# Altium footprint library Mechanical.PcbLib: 35 footprints (part 3 of 3)
Each footprint in its own frame and in the unit in brackets; x right, y up, seen from the top. Pads: shape width x height; smd on the part's side, far side on the other; paste and mask are expansions set on the pad; w line width, h text height; cw(c..) or ccw(c..) is an arc to the next point about the centre after c.
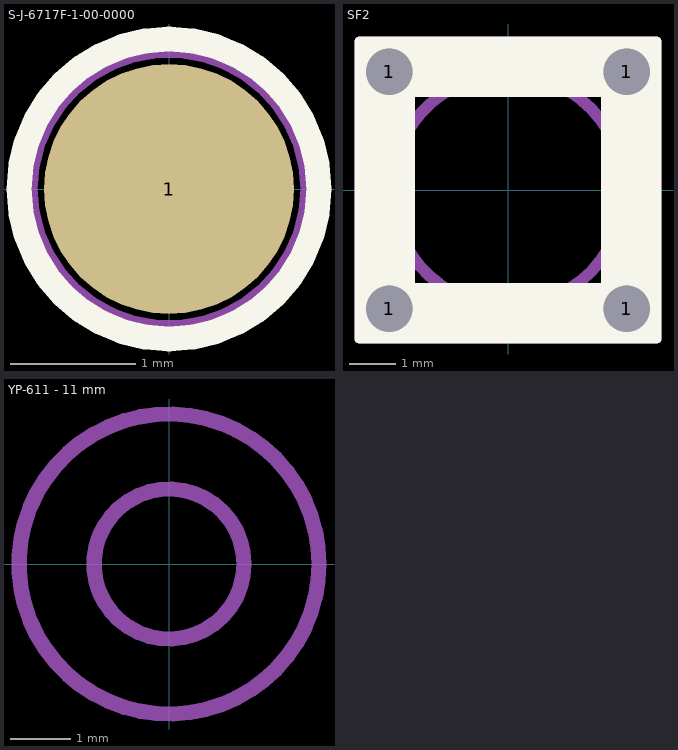
[diagram p2: the footprints below, top view; thin cyan lines are the x and y axes]

## S-J-6717F-1-00-0000 [mm]
pads (1):
  round 2 smd paste-2539.97: 1(0,0)
Top Overlay:
  circle w0.2: c0,0 r1.2
Mechanical 13:
  circle w0.1: c0,0 r1.1
  text ".Designator" at -1,-0.067 h0.2
Mechanical 15:
  lines w0.05: -0.5,0 0.5,0 ; 0,-0.5 0,0.5
3D body "DeckPogo v1.step": height 6.59, standoff -0.49, extent -0.996,-1 0.996,1

## SF2 [mm]
pads (4):
  round 1 hole 1 unplated: 1(-2.55,-2.55) 1(-2.55,2.55) 1(2.55,-2.55) 1(2.55,2.55)
Top Overlay:
  rectangle: -3.2,-3.2 3.2,-2
  rectangle: 2,-3.2 3.2,3.25
  rectangle: -3.2,2 3.2,3.2
  rectangle: -3.2,-3 -2,3.2
  lines w0.2: -3.2,-3.2 3.2,-3.2 3.2,3.2 -3.2,3.2 -3.2,-3.2
Mechanical 13:
  circle w0.254: c0,0 r2.5
  lines w0.2: -3.2,-3.2 -3.2,3.2 3.2,3.2 3.2,-3.2 -3.2,-3.2
3D body "SF2.STEP": height 2.04, standoff -1.49, extent -3.2,-3.2 3.2,3.2

## YP-611 - 11 mm [mm]
Mechanical 5:
  circle w0.254: c0,0 r2.5
  circle w0.254: c0,0 r1.25
3D body "YP-611 v1.step": height 11, standoff 0, extent -2.5,-2.497 2.5,2.497